# EAGLE library part OLED_7PIN_SPI (library EAF_library)
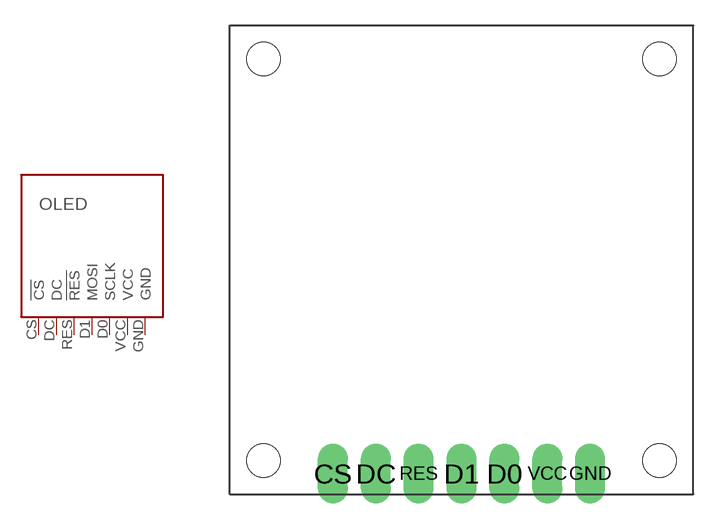
[diagram p2: symbol with the pads of OLED_7PIN; footprint OLED_7PIN]

Designator prefix OLED

## OLED_7PIN_SPI  [OLED_7PIN]
CS  !CS
D0  SCLK
D1  MOSI
DC  DC
GND  GND
RES  !RES
VCC  VCC

## Footprint OLED_7PIN (pad centres in mm)
drill 1 pad 1.778 long: CS -7.62,-0.006; D0 2.54,-0.006; D1 0,-0.006; DC -5.08,-0.006; GND 7.62,-0.006; RES -2.54,-0.006; VCC 5.08,-0.006
hole 2 at -11.725,24.569
hole 2 at -11.725,0.769
hole 2 at 11.725,0.769
hole 2 at 11.725,24.569